# Altium footprint library Galio-complete.PcbLib: 31 footprints (part 2 of 2)
Each footprint in its own frame and in the unit in brackets; x right, y up, seen from the top. Pads: shape width x height; smd on the part's side, far side on the other; paste and mask are expansions set on the pad; w line width, h text height; cw(c..) or ccw(c..) is an arc to the next point about the centre after c.
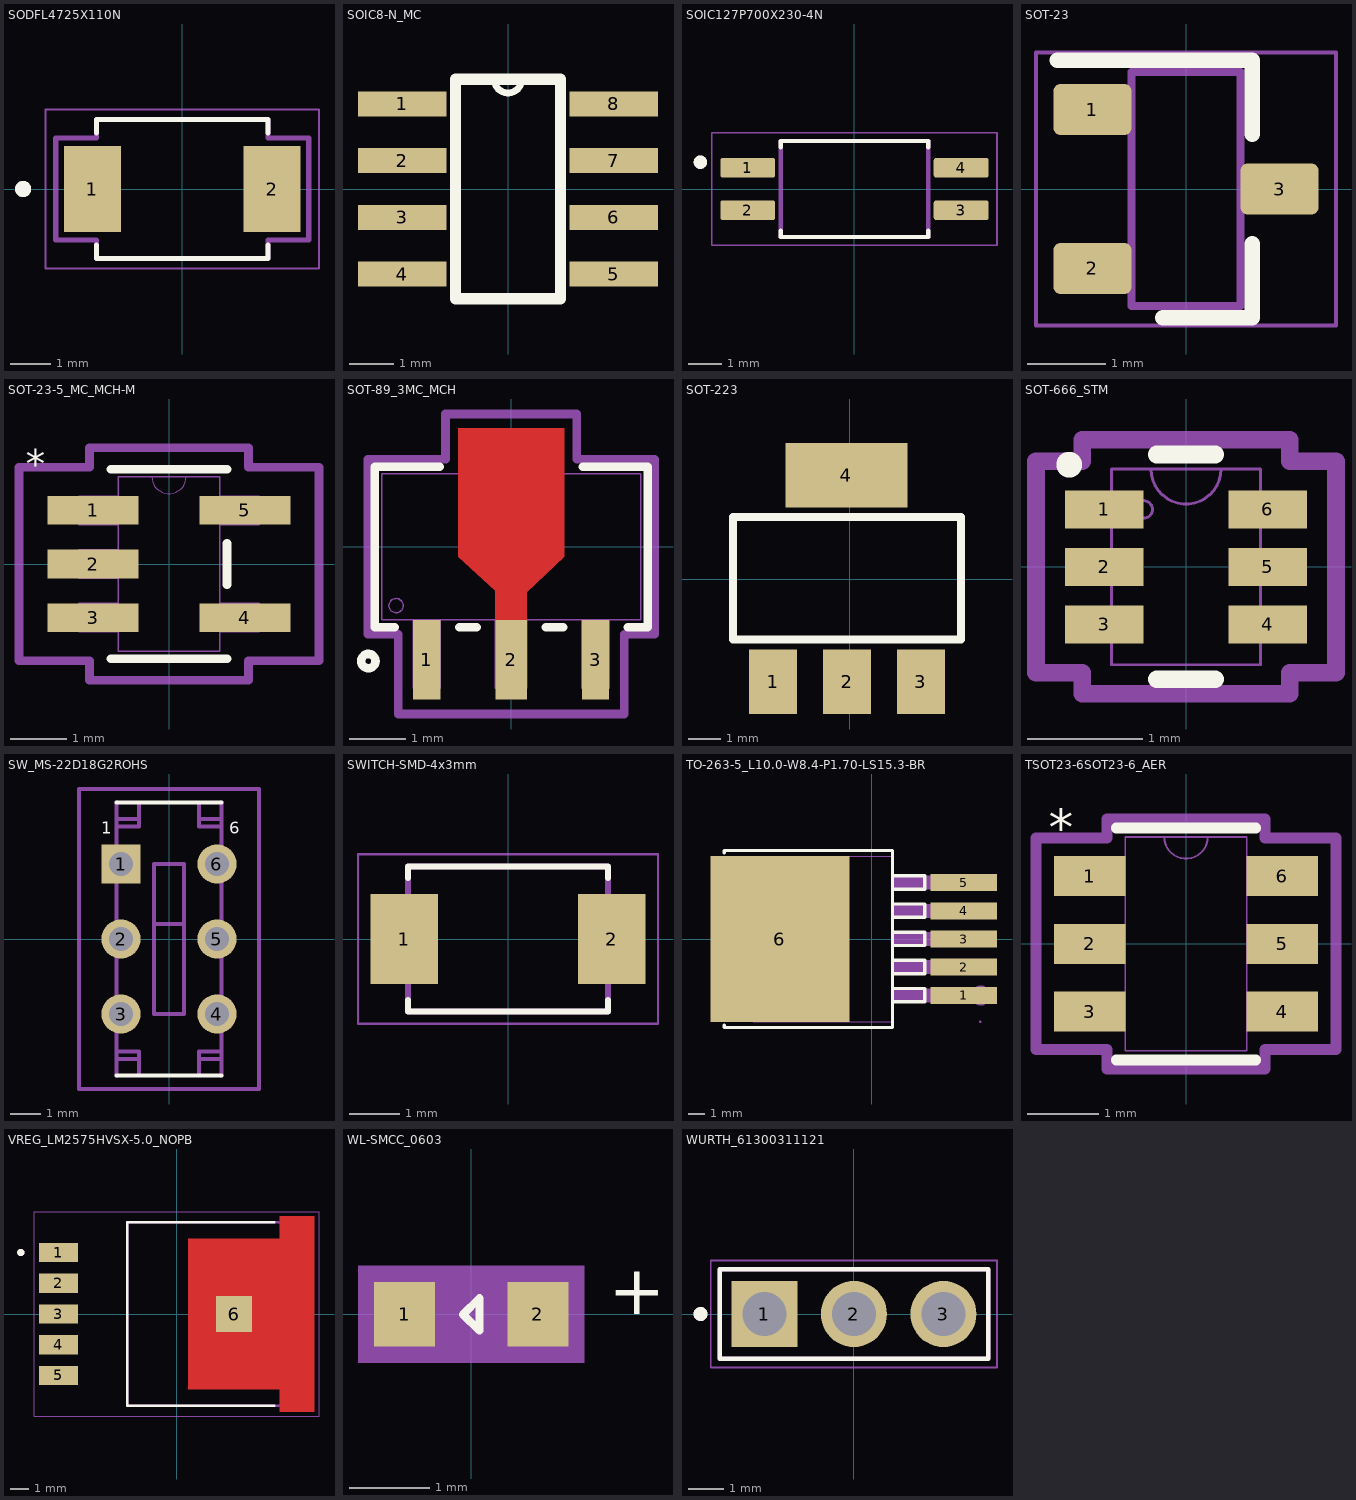
[diagram p1: the footprints below, top view; thin cyan lines are the x and y axes]

## SODFL4725X110N [mm]
height 1.1
pads (2):
  rect 1.4x2.1 smd paste-0.1: 1(-2.2,0) 2(2.2,0)
Top Overlay:
  circle w0.2: c-3.9,0 r0.1
  lines w0.127: -2.1,-1.37 -2.1,-1.7 2.1,-1.7 2.1,-1.37 ; -2.1,1.37 -2.1,1.7 2.1,1.7 2.1,1.37
Mechanical 13:
  lines w0.127: -3.1,-1.25 -3.1,1.25 -2.1,1.25 -2.1,1.7 2.1,1.7 2.1,1.25 3.1,1.25 3.1,-1.25 2.1,-1.25 2.1,-1.7 -2.1,-1.7 -2.1,-1.25 -3.1,-1.25
Mechanical 15:
  lines w0.05: -3.35,-1.95 3.35,-1.95 3.35,1.95 -3.35,1.95 -3.35,-1.95
3D body "step_temp.STEP": height 1.1, standoff 0, extent -2.35,-1.25 2.35,1.25

## SOIC8-N_MC [mil]
pads (8):
  rect 78x22 smd: 1(-93,75) 2(-93,25) 3(-93,-25) 4(-93,-75) 5(93,-75) 6(93,-25) 7(93,25) 8(93,75)
Top Overlay:
  lines w6: -46.17,-96.5 46.17,-96.5 ; -46.17,96.5 46.17,96.5 ; -12,96.5 ccw(c0,96.5) 12,96.5
  lines w10: -46.17,-96.5 -46.17,96.5 46.17,96.5 46.17,-96.5 -46.17,-96.5
3D body "SOIC-8-1.STEP": height 68.9, standoff 0, extent -118.11,-96.78 118.11,96.14

## SOIC127P700X230-4N [mm]
height 2.3
pads (4):
  rrect25% 1.64x0.59 smd: 1(-3.185,0.635) 2(-3.185,-0.635) 3(3.185,-0.635) 4(3.185,0.635)
Top Overlay:
  circle w0.2: c-4.6,0.8 r0.1
  lines w0.127: -2.2,-1.245 -2.2,-1.43 2.2,-1.43 2.2,-1.245 ; -2.2,1.245 -2.2,1.43 2.2,1.43 2.2,1.245
Mechanical 13:
  circle w0.2: c-4.6,0.8 r0.1
  lines w0.127: -2.2,-1.43 2.2,-1.43 2.2,1.43 -2.2,1.43 -2.2,-1.43
Mechanical 15:
  lines w0.05: -4.255,-1.68 4.255,-1.68 4.255,1.68 -4.255,1.68 -4.255,-1.68
3D body "step_temp.STEP": height 2.1, standoff 0, extent -3.5,-1.3 3.5,1.3

## SOT-23 [mm] "SOT23, 3-Leads, IPC Medium Density"
height 1.1
pads (3):
  rrect25% 1x0.65 smd: 1(-1.2,1.02) 2(-1.2,-1.02) 3(1.2,0)
Top Overlay:
  lines w0.2: -1.65,1.65 0.85,1.65 0.85,0.7 ; -0.3,-1.65 0.85,-1.65 0.85,-0.7
Mechanical 13:
  lines w0.1: -0.7,-1.5 -0.7,1.5 0.7,1.5 0.7,-1.5 -0.7,-1.5
Mechanical 15:
  lines w0.05: -1.925,-1.75 -1.925,1.75 1.925,1.75 1.925,-1.75 -1.925,-1.75
3D body "p200_SOT-23.stp": height 1.3, standoff 0, extent -1.3,-1.52 1.3,1.52

## SOT-23-5_MC_MCH-M [mil]
pads (5):
  rect 63.37x20 smd paste+0 mask+0: 1(-52.97,37.4) 2(-52.97,0) 3(-52.97,-37.4) 4(52.97,-37.4) 5(52.97,37.4)
Top Overlay:
  lines w6: -40.5,-66 40.5,-66 ; -40.5,66 40.5,66 ; 40.5,-14.3 40.5,14.3
  text "*" at -100,60 h20
Mechanical 13:
  lines w0: -12,61 ccw(c0,61) 12,61
  lines w1: -63,-47.4 -63,-27.4 -35.5,-27.4 -35.5,-47.4 -63,-47.4 ; -63,-10 -63,10 -35.5,10 -35.5,-10 -63,-10 ; -63,27.4 -63,47.4 -35.5,47.4 -35.5,27.4 -63,27.4 ; -35.5,-61 35.5,-61 35.5,61 -35.5,61 -35.5,-61 ; 35.5,-47.4 35.5,-27.4 63,-27.4 63,-47.4 35.5,-47.4 ; 35.5,27.4 35.5,47.4 63,47.4 63,27.4 35.5,27.4
Mechanical 15:
  lines w6: -104.65,-67.4 -55.5,-67.4 -55.5,-81 55.5,-81 55.5,-67.4 104.65,-67.4 104.65,67.4 55.5,67.4 55.5,81 -55.5,81 -55.5,67.4 -104.65,67.4 -104.65,-67.4
3D body "SOT-23-5_MC_MCH.step": height 57.09, standoff 0, extent -62.99,-60.98 62.99,60.98

## SOT-89_3MC_MCH [mil]
pads (3):
  rect 19x55.87 smd paste+0 mask+0: 1(-59.06,-79.12) 3(59.06,-79.12)
  rect 22x55.87 smd paste+0 mask+0: 2(0,-79.12)
Top Layer:
  region: 11,-51.18 -11,-51.18 -11,-30.82 -36.98,-6.8 -36.98,82.96 36.98,82.96 36.98,-6.8 11,-31.8
Top Overlay:
  circle w6: c-100,-80 r5
  lines w6: -81.66,-56.18 -95.55,-56.18 -95.55,56.18 -50.08,56.18 ; -36.46,-56.18 -24.1,-56.18 ; 24.1,-56.18 36.46,-56.18 ; 50.08,56.18 95.55,56.18 95.55,-56.18 81.66,-56.18
Top Paste:
  region: 11,-51.18 -11,-51.18 -11,-30.82 -36,-5.82 -36,77.06 36,77.06 36,-5.82 11,-30.82
Top Solder:
  region: 11,-51.18 -11,-51.18 -11,-30.82 -36,-5.82 -36,77.06 36,77.06 36,-5.82 11,-30.82
Mechanical 13:
  circle w1: c-80.55,-41.18 r5
  lines w1: -90.55,-51.18 -90.55,51.18 90.55,51.18 90.55,-51.18 -90.55,-51.18 ; -68.56,-99.18 -49.56,-99.18 -49.56,-51.18 -68.56,-51.18 -68.56,-99.18 ; -11,-99.18 11,-99.18 11,-51.18 -11,-51.18 -11,-99.18 ; 49.56,-99.18 68.56,-99.18 68.56,-51.18 49.56,-51.18 49.56,-99.18
Mechanical 15:
  lines w6: -100.55,-61.18 -79.06,-61.18 -79.06,-117.06 79.06,-117.06 79.06,-61.18 100.55,-61.18 100.55,61.18 46,61.18 46,92.96 -46,92.96 -46,61.18 -100.55,61.18 -100.55,-61.18
3D body "SOT-89_3MC_MCH.step": height 65.08, standoff 0, extent -90.55,-99.17 90.55,69.17

## SOT-223 [mil]
pads (4):
  rect 59x79 smd: 1(-94,-126) 2(-3.45,-126) 3(87.1,-126)
  rect 150x79 smd: 4(-4.12,127.54)
Top Overlay:
  lines w10: -143.45,-74 136.55,-74 136.55,76 -143.45,76 -143.45,-74
3D body "SOT-223-2.STEP": height 74.8, standoff 0, extent -135.5,-135.12 128.28,148.51

## SOT-666_STM [mil]
pads (6):
  rect 26.87x13 smd paste+0 mask+0: 1(-27.94,19.68) 2(-27.94,0) 3(-27.94,-19.68) 4(27.94,-19.68) 5(27.94,0) 6(27.94,19.68)
Top Overlay:
  circle w8: c-40,35 r0.4
  lines w6: -10.03,-38.5 10.03,-38.5 ; -10.03,38.5 10.03,38.5
Mechanical 13:
  circle w1: c-14.5,19.68 r3
  lines w1: -12,33.5 ccw(c0,33.5) 12,33.5 ; -25.5,-33.5 25.5,-33.5 25.5,33.5 -25.5,33.5 -25.5,-33.5
Mechanical 15:
  lines w6: -51.37,-36.19 -35.5,-36.19 -35.5,-43.5 35.5,-43.5 35.5,-36.19 51.37,-36.19 51.37,36.19 35.5,36.19 35.5,43.5 -35.5,43.5 -35.5,36.19 -51.37,36.19 -51.37,-36.19
3D body "SOT-666_STM.step": height 25.12, standoff 0, extent -33.5,-33.5 33.5,33.5

## SW_MS-22D18G2ROHS [mm] "Interruptor deslizante"
pads (6):
  rect 1.308x1.308 / inner round 1.308 / far side rect 1.308x1.308 hole 0.8: 1(-1.6,2.5)
  round 1.308 hole 0.8: 2(-1.6,0) 3(-1.6,-2.5) 4(1.6,-2.5) 5(1.6,0) 6(1.6,2.5)
Top Overlay:
  lines w0.127: -1.75,-4.55 1.75,-4.55 ; -1.75,4.55 1.75,4.55
  text "1" at -2.252,3.503 h0.41
  text "6" at 2.002,3.503 h0.41
Mechanical 13:
  lines w0.127: -1.75,-4.55 -1.75,-4 ; -1.75,4.55 -1.75,4 ; -1,-4.5 -1,-4 ; -1,4.5 -1,4 ; 1,-4.5 1,-4 ; 1,4.5 1,4 ; 1.75,-4.55 1.75,-4 ; 1.75,4.55 1.75,4 ; -1.75,-4 -1.75,-3.75 ; -1.75,-4 -1,-4 ; -1.75,-3.75 -1.75,3.75 ; -1.75,-3.75 -1,-3.75 -1,-4 ; -1.75,3.75 -1.75,4 ; -1.75,3.75 -1,3.75 -1,4 ; -1.75,4 -1,4 ; -0.5,0.5 -0.5,-2.5 0.5,-2.5 0.5,0.5 ; -0.5,0.5 -0.5,2.5 0.5,2.5 0.5,0.5 ; -0.5,0.5 0.5,0.5 ; 1,-4 1,-3.75 1.75,-3.75 ; 1,-4 1.75,-4 ; 1,4 1,3.75 1.75,3.75 ; 1,4 1.75,4 ; 1.75,-4 1.75,-3.75 ; 1.75,-3.75 1.75,3.75 ; 1.75,3.75 1.75,4
Mechanical 15:
  lines w0.127: -3,-5 3,-5 3,5 -3,5 -3,-5
3D body "step_temp.STEP": height 5.5, standoff -3.15, extent -1.778,-4.528 1.722,4.572

## SWITCH-SMD-4x3mm [mm]
height 2
pads (2):
  rect 1.35x1.8 smd: 1(-2.075,0) 2(2.075,0)
Top Overlay:
  lines w0.127: -2,-1.22 -2,-1.45 2,-1.45 2,-1.22 ; -2,1.22 -2,1.45 2,1.45 2,1.22
Mechanical 13:
  lines w0.127: -2,-1.45 -2,1.45 2,1.45 2,-1.45 -2,-1.45
Mechanical 15:
  lines w0.05: -3,-1.7 3,-1.7 3,1.7 -3,1.7 -3,-1.7
3D body "step_temp.STEP": height 2, standoff 0, extent -2.4,-1.45 2.4,1.45

## TO-263-5_L10.0-W8.4-P1.70-LS15.3-BR [mm]
pads (6):
  rect 4x1.02 smd: 1(5.55,-3.4) 2(5.55,-1.7) 3(5.55,0) 4(5.55,1.7) 5(5.55,3.4)
  rect 8.4x10 smd: 6(-5.55,0)
Top Overlay:
  lines w0.2: -8.91,-5.204 -8.91,-5.334 1.25,-5.334 1.25,5.334 -8.91,5.334 -8.91,5.204 ; 1.25,-3.819 1.25,-3.79 3.2,-3.79 3.2,-2.991 1.25,-2.991 ; 1.25,-2.119 1.25,-2.09 3.2,-2.09 3.2,-1.291 1.25,-1.291 ; 1.25,-0.419 1.25,-0.39 3.2,-0.39 3.2,0.409 1.25,0.409 ; 1.25,1.281 1.25,1.31 3.2,1.31 3.2,2.109 1.25,2.109 ; 1.25,2.981 1.25,3.01 3.2,3.01 3.2,3.809 1.25,3.809
Mechanical 6:
  circle w0.6: c6.57,-3.41 r0.3
Mechanical 15:
  region: 6.59,-5 6.59,-5.025 6.555,-5.06 6.505,-5.06 6.47,-5.025 6.47,-5 6.47,-4.975 6.505,-4.94 6.555,-4.94 6.59,-4.975
  region: -1.55,5 -1.55,-5 -7.795,-5 -8.81,-4.064 -8.81,4.064 -7.795,5
  region: 1.24,-3.805 1.24,-2.995 4,-2.995 4,-3.805
  region: 3.99,-3.805 3.99,-2.995 6.53,-2.995 6.53,-3.805
  region: 1.24,-2.105 1.24,-1.295 4,-1.295 4,-2.105
  region: 3.99,-2.105 3.99,-1.295 6.53,-1.295 6.53,-2.105
  region: 1.24,-0.405 1.24,0.405 4,0.405 4,-0.405
  region: 3.99,-0.405 3.99,0.405 6.53,0.405 6.53,-0.405
  region: 1.24,1.295 1.24,2.105 4,2.105 4,1.295
  region: 3.99,1.295 3.99,2.105 6.53,2.105 6.53,1.295
  region: 1.24,2.995 1.24,3.805 4,3.805 4,2.995
  region: 3.99,2.995 3.99,3.805 6.53,3.805 6.53,2.995
  lines w0.051: -7.15,-5 1.25,-5 1.25,5 -7.15,5 -7.15,-5
3D body "User Library-TO263-5.STEP": height 4.76, standoff -0.04, extent -8.978,-4.953 6.692,5.047

## TSOT23-6SOT23-6_AER [mm]
pads (6):
  rect 0.998x0.558 smd paste+0 mask+0: 1(-1.35,0.95) 2(-1.35,0) 3(-1.35,-0.95) 4(1.35,-0.95) 5(1.35,0) 6(1.35,0.95)
Top Overlay:
  lines w0.152: -0.978,-1.626 0.978,-1.626 ; -0.978,1.626 0.978,1.626
  text "*" at -1.921,1.381 h0.51
Mechanical 13:
  lines w0.025: -0.305,1.499 ccw(c0,1.499) 0.305,1.499 ; -1.499,-1.204 -0.851,-1.204 -0.851,-0.696 -1.499,-0.696 -1.499,-1.204 ; -1.499,-0.254 -0.851,-0.254 -0.851,0.254 -1.499,0.254 -1.499,-0.254 ; -1.499,0.696 -0.851,0.696 -0.851,1.204 -1.499,1.204 -1.499,0.696 ; -0.851,-1.499 -0.851,1.499 0.851,1.499 0.851,-1.499 -0.851,-1.499 ; 0.851,-1.204 1.499,-1.204 1.499,-0.696 0.851,-0.696 0.851,-1.204 ; 0.851,-0.254 1.499,-0.254 1.499,0.254 0.851,0.254 0.851,-0.254 ; 0.851,0.696 1.499,0.696 1.499,1.204 0.851,1.204 0.851,0.696
Mechanical 15:
  lines w0.152: -2.103,-1.483 -1.105,-1.483 -1.105,-1.753 1.105,-1.753 1.105,-1.483 2.103,-1.483 2.103,1.483 1.105,1.483 1.105,1.753 -1.105,1.753 -1.105,1.483 -2.103,1.483 -2.103,-1.483
3D body "TSOT23-6SOT23-6_AER.step": height 1.45, standoff 0, extent -1.499,-1.499 1.499,1.499

## VREG_LM2575HVSX-5.0_NOPB [mm]
height 4.65
pads (6):
  rect 2.16x1.07 smd: 1(-6.545,3.4) 2(-6.545,1.7) 3(-6.545,0) 4(-6.545,-1.7) 5(-6.545,-3.4)
  rect 2x2 smd paste-2 mask+0: 6(3.175,0)
Top Layer:
  region: 7.625,-5.4 5.715,-5.4 5.715,-4.165 0.635,-4.165 0.635,4.165 5.715,4.165 5.715,5.4 7.625,5.4
Top Overlay:
  circle w0.2: c-8.625,3.4 r0.1
  lines w0.127: 5.395,-5.08 -2.735,-5.08 -2.735,5.08 5.395,5.08
Top Paste:
  region: 2.605,0.285 1.205,0.285 1.205,1.795 2.605,1.795
  region: 5.145,0.285 3.745,0.285 3.745,1.795 5.145,1.795
  region: 2.605,-1.795 1.205,-1.795 1.205,-0.285 2.605,-0.285
  region: 5.145,-1.795 3.745,-1.795 3.745,-0.285 5.145,-0.285
  region: 2.605,-3.875 1.205,-3.875 1.205,-2.365 2.605,-2.365
  region: 5.145,-3.875 3.745,-3.875 3.745,-2.365 5.145,-2.365
  region: 2.605,2.365 1.205,2.365 1.205,3.875 2.605,3.875
  region: 5.145,2.365 3.745,2.365 3.745,3.875 5.145,3.875
  region: 7.095,0.065 6.245,0.065 6.245,1.285 7.095,1.285
  region: 7.095,-1.285 6.245,-1.285 6.245,-0.065 7.095,-0.065
  region: 7.095,1.415 6.245,1.415 6.245,2.635 7.095,2.635
  region: 7.095,2.765 6.245,2.765 6.245,3.985 7.095,3.985
  region: 7.095,4.115 6.245,4.115 6.245,5.335 7.095,5.335
  region: 7.095,-2.635 6.245,-2.635 6.245,-1.415 7.095,-1.415
  region: 7.095,-3.985 6.245,-3.985 6.245,-2.765 7.095,-2.765
  region: 7.095,-5.335 6.245,-5.335 6.245,-4.115 7.095,-4.115
Top Solder:
  region: 7.725,-5.5 5.615,-5.5 5.615,-4.265 0.535,-4.265 0.535,4.265 5.615,4.265 5.615,5.5 7.725,5.5
Mechanical 13:
  circle w0.2: c-8.625,3.4 r0.1
  lines w0.127: -2.735,-5.08 -2.735,5.08 5.905,5.08 5.905,-5.08 -2.735,-5.08
Mechanical 15:
  lines w0.05: -7.875,-5.65 -7.875,5.65 7.875,5.65 7.875,-5.65 -7.875,-5.65
3D body "step_temp.STEP": height 4.65, standoff -0.15, extent -7.175,-5.08 7.175,5.08

## WL-SMCC_0603 [mm]
pads (2):
  rect 0.75x0.8 smd paste+0 mask+0.102: 1(-0.825,0) 2(0.825,0)
Top Overlay:
  lines w0.1: -0.1,0 0.1,-0.2 0.1,0.2 -0.1,0
  text "+" at 1.7,0 h0.61
Mechanical 13:
  lines w0.1: -0.8,-0.4 0.8,-0.4 0.8,0.4 -0.8,0.4 -0.8,-0.4 ; -0.1,0 0.1,-0.2 0.1,0.2 -0.1,0
  text "+" at 1.7,0 h0.61
Mechanical 15:
  region: 1.4,-0.6 -1.4,-0.6 -1.4,0.6 1.4,0.6
3D body "step_temp.STEP": height 0.21, standoff 0.01, extent -0.8,-0.4 0.8,0.4

## WURTH_61300311121 [mm]
height 8.74
pads (3):
  rect 1.875x1.875 / inner round 1.875 / far side rect 1.875x1.875 hole 1.25: 1(-2.54,0)
  round 1.875 hole 1.25: 2(0,0) 3(2.54,0)
Top Overlay:
  circle w0.2: c-4.35,0 r0.1
  lines w0.127: -3.81,-1.27 -3.81,1.27 3.81,1.27 3.81,-1.27 -3.81,-1.27
Mechanical 13:
  circle w0.2: c-4.35,0 r0.1
  lines w0.127: -3.81,-1.27 -3.81,1.27 3.81,1.27 3.81,-1.27 -3.81,-1.27
Mechanical 15:
  lines w0.05: -4.06,-1.52 -4.06,1.52 4.06,1.52 4.06,-1.52 -4.06,-1.52
3D body "step_temp.STEP": height 7.27, standoff -4.27, extent -3.81,-1.27 3.81,1.27